# Altium schematic symbol library TPS54360.SchLib: 1 symbol
Pins are listed as number, name and electrical type; pins without a type are passive.

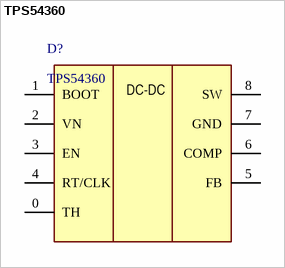
[diagram p0: symbol TPS54360]

## TPS54360
designator D?
pins: 0 TH, 1 BOOT, 2 VN, 3 EN, 4 RT/CLK, 5 FB, 6 COMP, 7 GND, 8 SW
text: DC-DC